# Altium footprint library AntennaMask.PcbLib: 1 footprints
Each footprint in its own frame and in the unit in brackets; x right, y up, seen from the top. Pads: shape width x height; smd on the part's side, far side on the other; paste and mask are expansions set on the pad; w line width, h text height; cw(c..) or ccw(c..) is an arc to the next point about the centre after c.
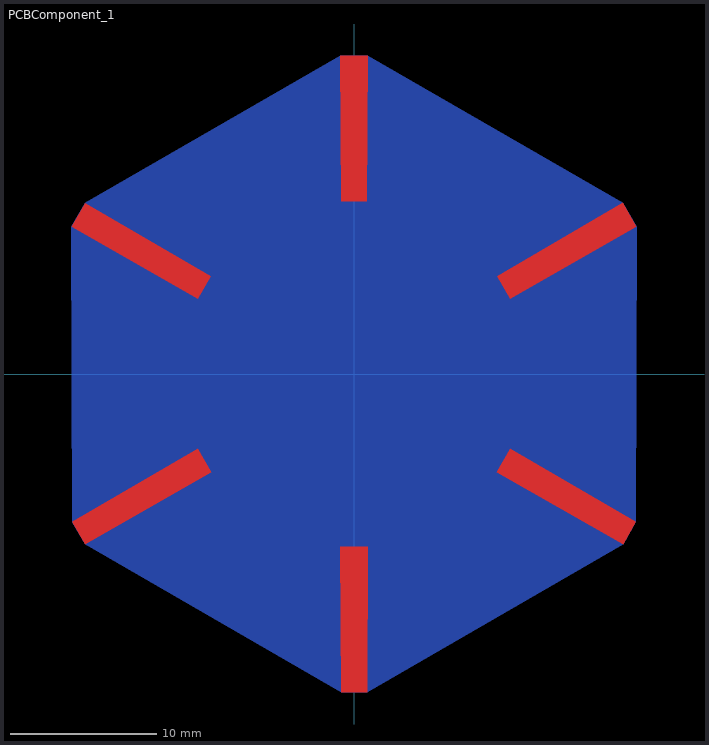
[diagram p0: the footprint, top view; thin cyan lines are the x and y axes]

## PCBComponent_1 [mm]
Top Layer:
  pour cut-out: -0.934,21.682 0.932,21.682 0.882,11.768 -0.884,11.768
  pour cut-out: 18.313,11.655 19.246,10.038 10.636,5.125 9.753,6.654
  pour cut-out: -10.648,-5.083 -9.715,-6.699 -18.325,-11.613 -19.208,-10.083
  pour cut-out: -19.246,10.035 -18.313,11.651 -9.753,6.651 -10.636,5.122
  pour cut-out: -0.933,-11.768 0.934,-11.768 0.884,-21.681 -0.882,-21.681
  pour cut-out: 9.719,-6.697 10.652,-5.081 19.212,-10.081 18.329,-11.611
Bottom Layer:
  pour cut-out: -0.936,21.682 -18.312,11.655 -19.253,10.038 -19.203,-10.092 -18.323,-11.615 -0.884,-21.68 0.886,-21.681 18.329,-11.614 19.213,-10.081 19.248,10.04 18.313,11.654 0.932,21.682
Bottom Overlay:
  circle w2: c0,0 r10.8
Top Solder:
  pour cut-out: -0.936,21.682 -18.312,11.655 -19.253,10.038 -19.203,-10.092 -18.323,-11.615 -0.884,-21.68 0.886,-21.681 18.329,-11.614 19.213,-10.081 19.248,10.04 18.313,11.654 0.932,21.682
  pour cut-out: -0.254,12.065 -1.524,11.938 -3.556,11.557 -5.588,10.668 -7.747,9.398 -9.271,7.874 -10.668,5.842 -11.557,3.683 -11.938,1.524 -12.065,-0.762 -11.811,-2.54 -11.303,-4.318 -10.668,-5.715 -9.779,-6.985 -9.017,-7.874 -8.128,-8.763 -6.985,-9.652 -5.715,-10.414 -4.191,-11.176 -2.667,-11.684 -0.635,-11.938 1.397,-11.811 3.175,-11.557 5.207,-10.795 7.239,-9.525 8.89,-8.001 10.287,-6.096 11.049,-4.572 11.684,-2.667 11.938,-0.635 11.938,1.27 11.684,2.921 11.049,4.699 10.287,6.223 9.398,7.62 8.255,8.89 6.858,10.033 5.334,11.049 3.556,11.684 1.524,12.065
Bottom Solder:
  pour cut-out: -0.936,21.682 -18.312,11.655 -19.253,10.038 -19.203,-10.092 -18.323,-11.615 -0.884,-21.68 0.886,-21.681 18.329,-11.614 19.213,-10.081 19.248,10.04 18.313,11.654 0.932,21.682